# Altium schematic symbol library Motors.SchLib: 1 symbol
Pins are listed as number, name and electrical type; pins without a type are passive.

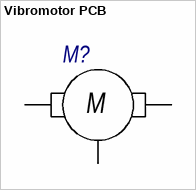
[diagram p0: symbol Vibromotor PCB]

## Vibromotor PCB
designator M?  (value not drawn)
pins: 1, 2, PAD
text: M